# Altium schematic symbol library TRS3122ERGE.Schlib: 1 symbol
Pins are listed as number, name and electrical type; pins without a type are passive.

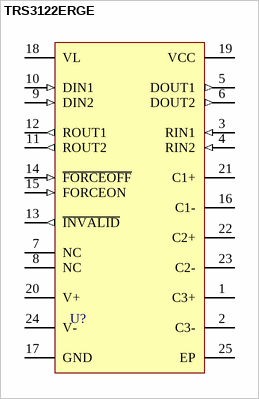
[diagram p0: symbol TRS3122ERGE]

## TRS3122ERGE
designator U?
TRS3122E 1.8 V Low Power Dual RS-232 Transceiver -40C~85C
pins: 1 C3+, 2 C3-, 3 RIN1 (in), 4 RIN2 (in), 5 DOUT1 (out), 6 DOUT2 (out), 7 NC, 8 NC, 9 DIN2 (in), 10 DIN1 (in), 11 ROUT2 (out), 12 ROUT1 (out), 13 ~{INVALID} (out), 14 ~{FORCEOFF} (in), 15 FORCEON (in), 16 C1-, 17 GND (power), 18 VL (power), 19 VCC (power), 20 V+, 21 C1+, 22 C2+, 23 C2-, 24 V-, 25 EP (power)